# Altium schematic symbol library MyCustomLib.SchLib: 8 symbols
Pins are listed as number, name and electrical type; pins without a type are passive.

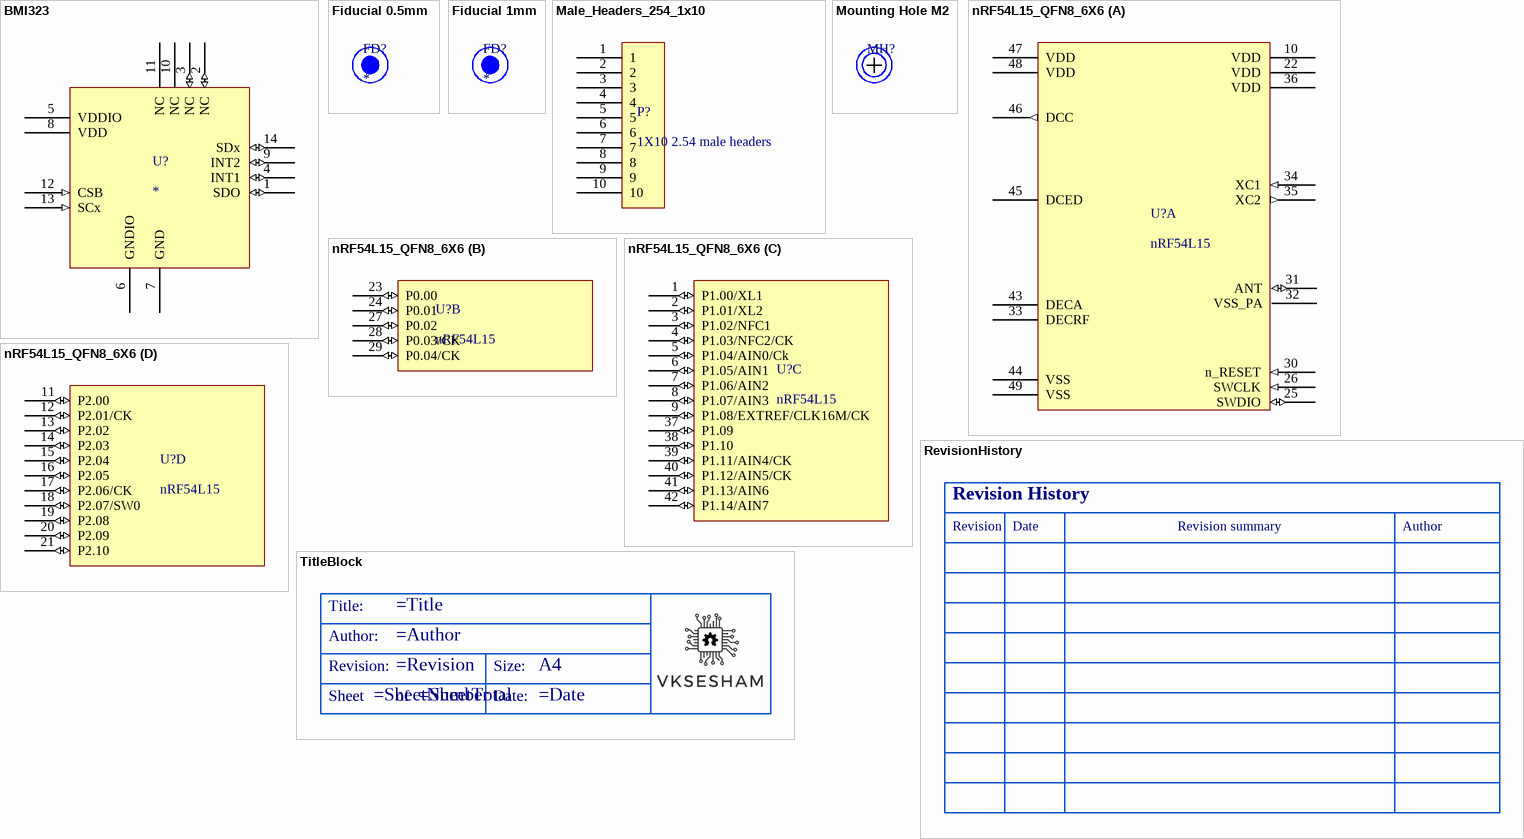
[diagram p0: symbols BMI323 to TitleBlock]

## BMI323
designator U?
Bosch 6-axis IMU; Manufacturer 1: Bosch Sensortec; Manufacturer Part Number 1: BMI323
footprint BMI323
pins: 1 SDO (io) "GND for default I2C address", 2 NC (io), 3 NC (io), 4 INT1 (io) "Interrupt pin 1", 5 VDDIO (power) "1.08-3.63V", 6 GNDIO (power), 7 GND (power), 8 VDD (power) "1.71-3.63V", 9 INT2 (io) "Interrupt pin 2", 10 NC, 11 NC, 12 CSB (in), 13 SCx (in) "SCK/SCL", 14 SDx (io) "SDO/SDA"

## Fiducial 0.5mm
designator FD?  (no BOM)
footprint Fiducial_0.5mm

## Fiducial 1mm
designator FD?  (no BOM)
footprint Fiducial_1mm

## Male_Headers_254_1x10
designator P?, comment 1X10 2.54 male headers  (no BOM)
footprint Male_Headers_254_1x10
pins: 1, 2, 3, 4, 5, 6, 7, 8, 9, 10

## Mounting Hole M2
designator MH?  (no BOM)
footprint Mounting Hole M2

## nRF54L15_QFN8_6X6
designator U?, comment nRF54L15
Ultra-low-power wireless SoC; Manufacturer 1: Nordic Semiconductor; Manufacturer Part Number 1: NRF54L15-QFAA-R7
footprint nRF54L15_QFN8_6X6 (nRF54L15_QFN8_6X6, 48-Leads, Body 6,00x6,00mm, Pitch 0,40mm, Thermal Pad 4,60x4,60mm, IPC High Density)
part A pins: 10 VDD (power), 22 VDD (power), 25 SWDIO (io), 26 SWCLK (in), 30 n_RESET (in), 31 ANT (io), 32 VSS_PA (power), 33 DECRF (power), 34 XC1 (in), 35 XC2 (out), 36 VDD (power), 43 DECA (power), 44 VSS (power), 45 DCED (power), 46 DCC (out), 47 VDD (power), 48 VDD (power), 49 VSS (power)
part B pins: 23 P0.00 (io), 24 P0.01 (io), 27 P0.02 (io), 28 P0.03/CK (io), 29 P0.04/CK (io)
part C pins: 1 P1.00/XL1 (io), 2 P1.01/XL2 (io), 3 P1.02/NFC1 (io), 4 P1.03/NFC2/CK (io), 5 P1.04/AIN0/Ck (io), 6 P1.05/AIN1 (io), 7 P1.06/AIN2 (io), 8 P1.07/AIN3 (io), 9 P1.08/EXTREF/CLK16M/CK (io), 37 P1.09 (io), 38 P1.10 (io), 39 P1.11/AIN4/CK (io), 40 P1.12/AIN5/CK (io), 41 P1.13/AIN6 (io), 42 P1.14/AIN7 (io)
part D pins: 11 P2.00 (io), 12 P2.01/CK (io), 13 P2.02 (io), 14 P2.03 (io), 15 P2.04 (io), 16 P2.05 (io), 17 P2.06/CK (io), 18 P2.07/SW0 (io), 19 P2.08 (io), 20 P2.09 (io), 21 P2.10 (io)

## RevisionHistory
designator *  (value not drawn)  (graphical)
text: Revision History; Revision; Date; Revision summary; Author

## TitleBlock
designator *  (value not drawn)  (graphical)
text: Title:; Author:; Revision:; Size:; A4; Sheet; of; Date: